# Altium footprint library Switch.PcbLib: 47 footprints (part 1 of 3)
Each footprint in its own frame and in the unit in brackets; x right, y up, seen from the top. Pads: shape width x height; smd on the part's side, far side on the other; paste and mask are expansions set on the pad; w line width, h text height; cw(c..) or ccw(c..) is an arc to the next point about the centre after c.
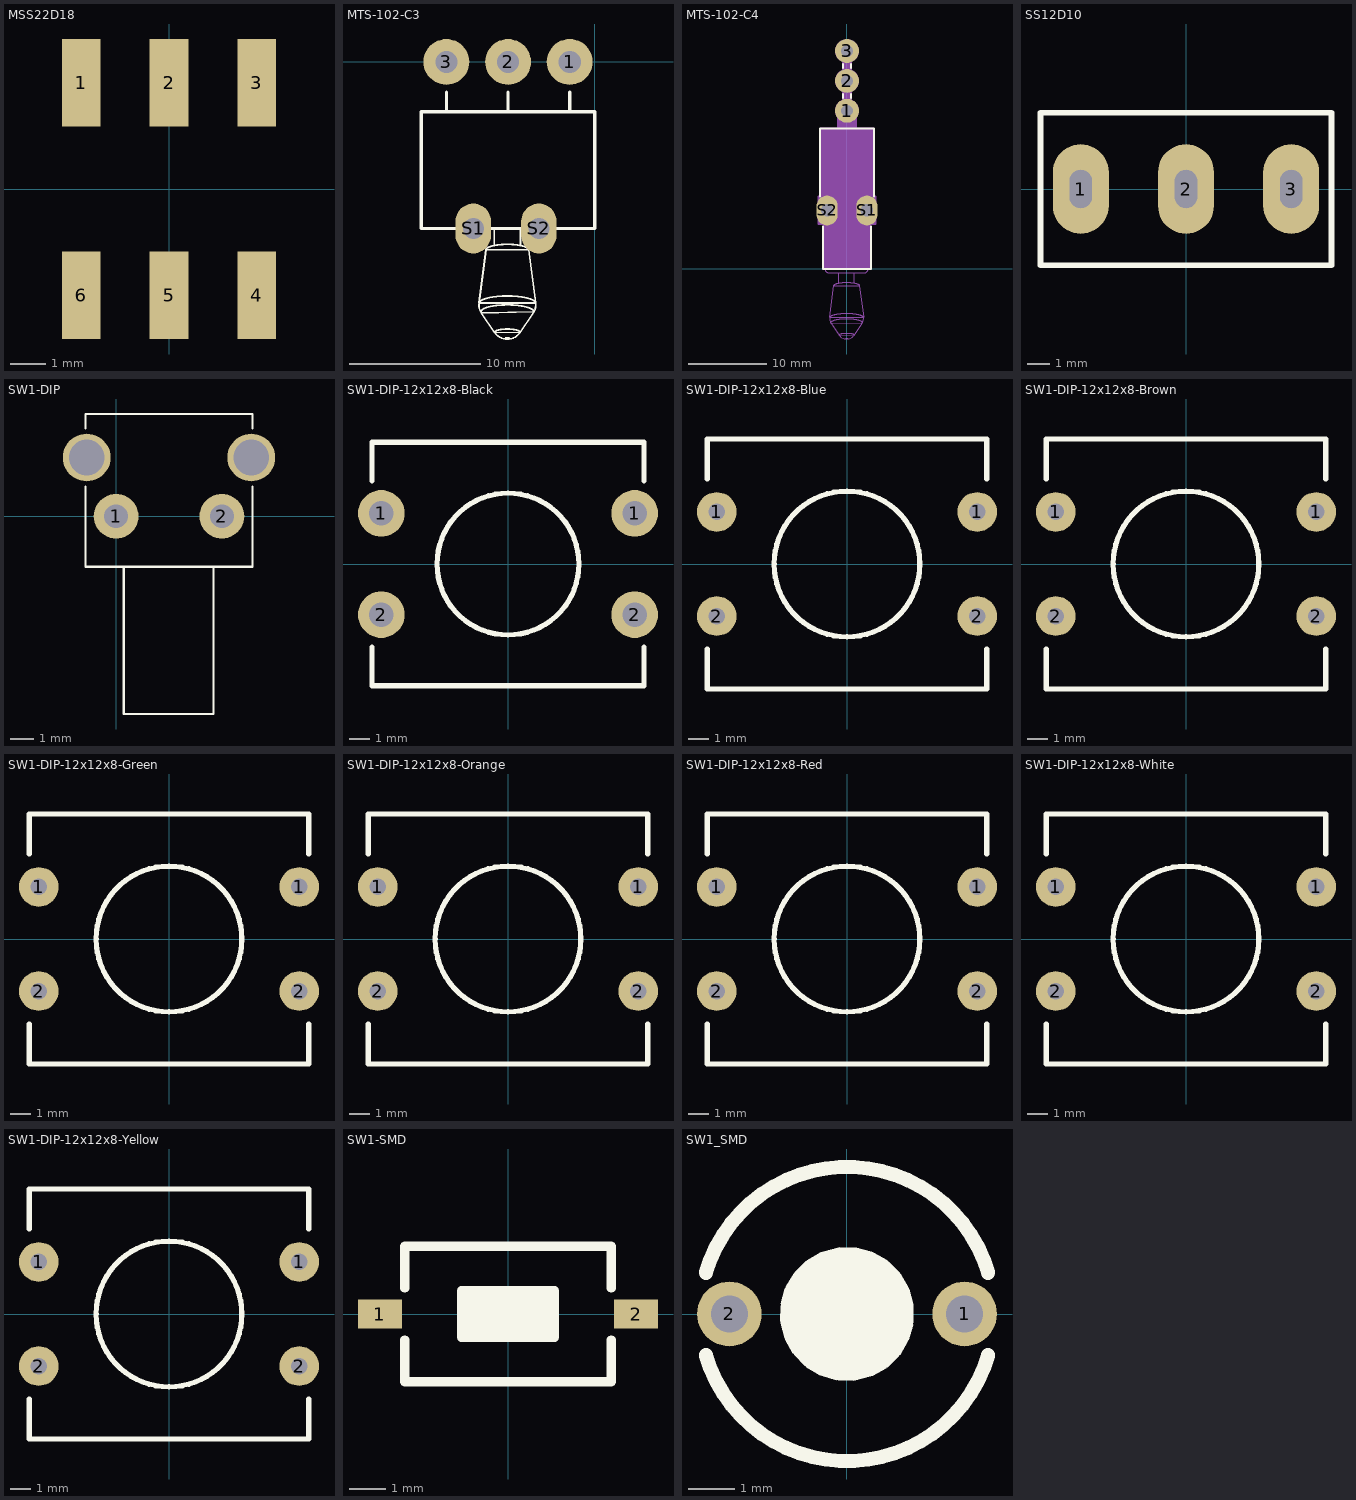
[diagram p0: the footprints below, top view; thin cyan lines are the x and y axes]

## MSS22D18 [mm]
pads (6):
  rect 1.1x2.5 smd: 1(-2.5,3.025) 2(0,3.025) 3(2.5,3.025) 4(2.5,-3.025) 5(0,-3.025) 6(-2.5,-3.025)
3D body "Selector Switch - MSS22D18.stp": height 5.8, standoff -0.02, extent -4.585,-3.488 4.585,3.421

## MTS-102-C3 [mm]
pads (5):
  round 3.5 hole 1.7: 1(-1.9,0) 2(-6.6,0) 3(-11.3,0)
  oval 2.7x3.81 hole 1.6: S1(-9.25,-12.7) S2(-4.25,-12.7)
Top Overlay:
  drawing of 716 lines, arcs and shapes, not listed
3D body "User Library-MTS-102-C3.step": height 9.46, standoff -1.64, extent -13.2,-26.7 0,0.55

## MTS-102-C4 [mm]
pads (5):
  round 3.048 hole 1.5: 1(0,20.142) 2(0,23.952) 3(0,27.762)
  oval 2.7x3.81 hole 1.6: S1(2.54,7.442) S2(-2.54,7.442)
Top Overlay:
  lines w0.127: -2.8,0 2.7,0
  lines w0.254: -3.429,9.22 -3.429,17.907 3.429,17.907 3.429,9.22 ; -3.048,5.41 -3.048,0 3.048,0 3.048,5.41 3.073,5.41 ; -0.508,21.793 -0.508,22.301 ; -0.508,25.603 -0.508,26.111 ; 0.508,21.793 0.508,22.301 ; 0.508,25.603 0.508,26.111
Mechanical 7:
  drawing of 729 lines, arcs and shapes, not listed
3D body "SPDT Subminiature Toggle.stp": height 13, standoff -2.5, extent -3.5,-8.383 3.5,28.012

## PCBComponent_1 [mil]

## SS12D10 [mm]
pads (3):
  oval 2.5x4 hole 1 slot 1.7 at 90 deg: 1(-4.7,0) 2(0,0) 3(4.7,0)
Top Overlay:
  lines w0.254: -6.5,-3.4 6.5,-3.4 6.5,3.4 -6.5,3.4 -6.5,-3.4
3D body "Basprov1.1 v2.step": height 10.76, standoff -6.33, extent -6.5,-3.4 6.5,3.4

## SW1-DIP [mil]
pads (4):
  round 75 hole 40: 1(0,0) 2(177.16,0)
  round 80 hole 60: ""(-49.21,98.42) ""(226.38,98.42)
Top Overlay:
  lines w4: -51.18,49.21 -51.18,-84.65 228.35,-84.65 228.35,49.21 ; -51.18,147.64 -51.18,171.26 88.58,171.26 228.35,171.26 228.35,147.64 ; 13,-84.65 13,-331 163,-331 163,-84.65
3D body "User Library-omron_b3f-3152.step": height 283, standoff -135, extent -86.8,-248 264.79,160
3D body: height 254.82, standoff 75.18, extent -1.64,-398 177.64,-181

## SW1-DIP-12x12x8-Black [mm] "SW button 4pin, 12x12mm"
pads (4):
  round 2.3 hole 1.2: 1(-6.25,2.5) 1(6.25,2.5) 2(-6.25,-2.5) 2(6.25,-2.5)
Top Overlay:
  circle w0.254: c0,0 r3.5
  lines w0.254: -6.708,-4.087 -6.708,-6.007 6.708,-6.007 6.708,-4.087 ; -6.708,4.087 -6.708,6.007 6.708,6.007 6.708,4.087
3D body "Tactal Switch - THRU(12mmx12mmx8mm)-Black.stp": height 7.87, standoff -3.05, extent -6.708,-6.007 6.708,6.007

## SW1-DIP-12x12x8-Blue [mm] "SW button 4pin, 12x12mm"
pads (4):
  round 1.905 hole 0.787: 1(-6.25,2.5) 1(6.25,2.5) 2(-6.25,-2.5) 2(6.25,-2.5)
Top Overlay:
  circle w0.254: c0,0 r3.5
  lines w0.254: -6.708,-4.087 -6.708,-6.007 6.708,-6.007 6.708,-4.087 ; -6.708,4.087 -6.708,6.007 6.708,6.007 6.708,4.087
3D body "Tactal Switch - THRU(12mmx12mmx8mm)-Blue.stp": height 7.87, standoff -3.05, extent -6.708,-6.007 6.708,6.007

## SW1-DIP-12x12x8-Brown [mm] "SW button 4pin, 12x12mm"
pads (4):
  round 1.905 hole 0.787: 1(-6.25,2.5) 1(6.25,2.5) 2(-6.25,-2.5) 2(6.25,-2.5)
Top Overlay:
  circle w0.254: c0,0 r3.5
  lines w0.254: -6.708,-4.087 -6.708,-6.007 6.708,-6.007 6.708,-4.087 ; -6.708,4.087 -6.708,6.007 6.708,6.007 6.708,4.087
3D body "Tactal Switch - THRU(12mmx12mmx8mm)-Brown.stp": height 7.87, standoff -3.05, extent -6.708,-6.007 6.708,6.007

## SW1-DIP-12x12x8-Green [mm] "SW button 4pin, 12x12mm"
pads (4):
  round 1.905 hole 0.787: 1(-6.25,2.5) 1(6.25,2.5) 2(-6.25,-2.5) 2(6.25,-2.5)
Top Overlay:
  circle w0.254: c0,0 r3.5
  lines w0.254: -6.708,-4.087 -6.708,-6.007 6.708,-6.007 6.708,-4.087 ; -6.708,4.087 -6.708,6.007 6.708,6.007 6.708,4.087
3D body "Tactal Switch - THRU(12mmx12mmx8mm)-Green.stp": height 7.87, standoff -3.05, extent -6.708,-6.007 6.708,6.007

## SW1-DIP-12x12x8-Orange [mm] "SW button 4pin, 12x12mm"
pads (4):
  round 1.905 hole 0.787: 1(-6.25,2.5) 1(6.25,2.5) 2(-6.25,-2.5) 2(6.25,-2.5)
Top Overlay:
  circle w0.254: c0,0 r3.5
  lines w0.254: -6.708,-4.087 -6.708,-6.007 6.708,-6.007 6.708,-4.087 ; -6.708,4.087 -6.708,6.007 6.708,6.007 6.708,4.087
3D body "Tactal Switch - THRU(12mmx12mmx8mm)-Orange.stp": height 7.87, standoff -3.05, extent -6.708,-6.007 6.708,6.007

## SW1-DIP-12x12x8-Red [mm] "SW button 4pin, 12x12mm"
pads (4):
  round 1.905 hole 0.787: 1(-6.25,2.5) 1(6.25,2.5) 2(-6.25,-2.5) 2(6.25,-2.5)
Top Overlay:
  circle w0.254: c0,0 r3.5
  lines w0.254: -6.708,-4.087 -6.708,-6.007 6.708,-6.007 6.708,-4.087 ; -6.708,4.087 -6.708,6.007 6.708,6.007 6.708,4.087
3D body "Tactal Switch - THRU(12mmx12mmx8mm)-Red.stp": height 7.87, standoff -3.05, extent -6.708,-6.007 6.708,6.007

## SW1-DIP-12x12x8-White [mm] "SW button 4pin, 12x12mm"
pads (4):
  round 1.905 hole 0.787: 1(-6.25,2.5) 1(6.25,2.5) 2(-6.25,-2.5) 2(6.25,-2.5)
Top Overlay:
  circle w0.254: c0,0 r3.5
  lines w0.254: -6.708,-4.087 -6.708,-6.007 6.708,-6.007 6.708,-4.087 ; -6.708,4.087 -6.708,6.007 6.708,6.007 6.708,4.087
3D body "Tactal Switch - THRU(12mmx12mmx8mm)-White.stp": height 7.87, standoff -3.05, extent -6.708,-6.007 6.708,6.007

## SW1-DIP-12x12x8-Yellow [mm] "SW button 4pin, 12x12mm"
pads (4):
  round 1.905 hole 0.787: 1(-6.25,2.5) 1(6.25,2.5) 2(-6.25,-2.5) 2(6.25,-2.5)
Top Overlay:
  circle w0.254: c0,0 r3.5
  lines w0.254: -6.708,-4.087 -6.708,-6.007 6.708,-6.007 6.708,-4.087 ; -6.708,4.087 -6.708,6.007 6.708,6.007 6.708,4.087
3D body "Tactal Switch - THRU(12mmx12mmx8mm)-Yellow.stp": height 7.87, standoff -3.05, extent -6.708,-6.007 6.708,6.007

## SW1-SMD [mm]
pads (2):
  rect 1.2x0.8 smd: 1(-3.5,0) 2(3.5,0)
Top Overlay:
  rectangle: -1.27,-0.635 1.27,0.635
  lines w0.254: -2.819,-0.711 -2.819,-1.854 2.819,-1.854 2.819,-0.711 ; -2.819,0.711 -2.819,1.854 2.819,1.854 2.819,0.711 ; -1.27,-0.635 -1.27,0.635 1.27,0.635 1.27,-0.635 -1.27,-0.635
3D body "User Library-Button-SMD.step": height 2.5, standoff 0, extent -3.05,-1.85 3.05,1.85

## SW1_SMD [mil]
pads (2):
  round 55 / inner round 60 / far side round 55 hole 31.5: 1(100.23,0.2) 2(-99.77,0.2)
Top Overlay:
  region: -7.07,-56.21 -7.88,-55.86 -8.74,-55.96 -21.38,-52.41 -22.07,-51.87 -22.94,-51.74 -34.23,-45.05 -34.75,-44.35 -35.56,-44 -44.74,-34.62 -45.07,-33.81 -45.75,-33.27 -52.2,-21.83 -52.31,-20.96 -52.83,-20.26 -56.11,-7.55 -55.99,-6.68 -56.32,-5.87 -56.2,7.26 -55.86,8.06 -55.97,8.93 -52.47,21.58 -51.93,22.27 -51.81,23.14 -45.16,34.46 -44.47,34.99 -44.13,35.8 -34.78,45.02 -33.97,45.35 -33.43,46.04 -22.03,52.54 -21.16,52.65 -20.46,53.17 -7.76,56.51 -6.9,56.39 -6.09,56.72 7.04,56.66 7.85,56.33 8.72,56.44 21.39,52.99 22.08,52.46 22.95,52.34 34.3,45.74 34.83,45.05 35.64,44.71 44.9,35.41 45.23,34.6 45.92,34.06 52.47,22.68 52.59,21.82 53.12,21.12 56.51,8.44 56.39,7.57 56.73,6.76 56.73,0.2 56.71,0.17 56.73,0.14 56.72,-0.73 56.71,-0.76 56.72,-0.79 56.6,-7.35 56.25,-8.15 56.35,-9.02 52.74,-21.65 52.2,-22.33 52.07,-23.2 45.33,-34.46 44.62,-34.98 44.28,-35.78 34.85,-44.92 34.04,-45.25 33.5,-45.93 22.03,-52.33 21.16,-52.43 20.46,-52.96 7.74,-56.18 6.87,-56.05 6.06,-56.38
  lines w12: -119.77,-34.8 ccw(c0.23,0.07) 120.23,-34.8 ; -119.77,35.2 cw(c0.23,0.2) 120.23,35.2